# EAGLE library part AD8351 (library IC_Linear)
Differential RF/IF Amplifier Reference Datasheet <https://www.analog.com/media/en/technical-documentation/data-sheets/AD8351.pdf>
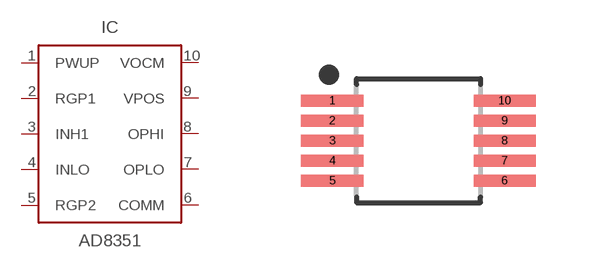
[diagram p21: symbol with the pads of SOP50P490X110-10N; footprint SOP50P490X110-10N]

Designator prefix IC

## AD8351ARMZ (CATEGORY: RF Amplifier; DESCRIPTION: RF Amplifier miniSO IF Sampling ADC Driver; MANUFACTURER: Analog Devices Inc.; MPN: AD8351ARMZ; OPERATING_TEMP: -40°C ~ 85°C; PART_STATUS: Active; ROHS_COMPLIANT: ROHS3 Compliant; SERIES: AD8351; SUB-CATEGORY: Wireless & RF Integrated Circuits; TYPE: RF Amplifier; VALUE: AD8351)  [SOP50P490X110-10N]
1  PWUP  in
2  RGP1  in
3  INH1
4  INLO  pas
5  RGP2  pas
6  COMM  pas
7  OPLO  pas
8  OPHI  pas
9  VPOS
10  VOCM  out

## Footprint SOP50P490X110-10N (pad centres in mm)
10-SOP, 0.50 mm pitch, 4.90 mm span, 3.00 X 3.00 X 1.10 mm body 10-pin SOP package with 0.50 mm pitch, 4.90 mm span with body size 3.00 X 3.00 X 1.10 mm
smd 1.551 x 0.3: 1 -2.156,1; 2 -2.156,0.5; 3 -2.156,0; 4 -2.156,-0.5; 5 -2.156,-1; 6 2.156,-1; 7 2.156,-0.5; 8 2.156,0; 9 2.156,0.5; 10 2.156,1